# EAGLE library part ARDUINO_UNO (library ERIC)
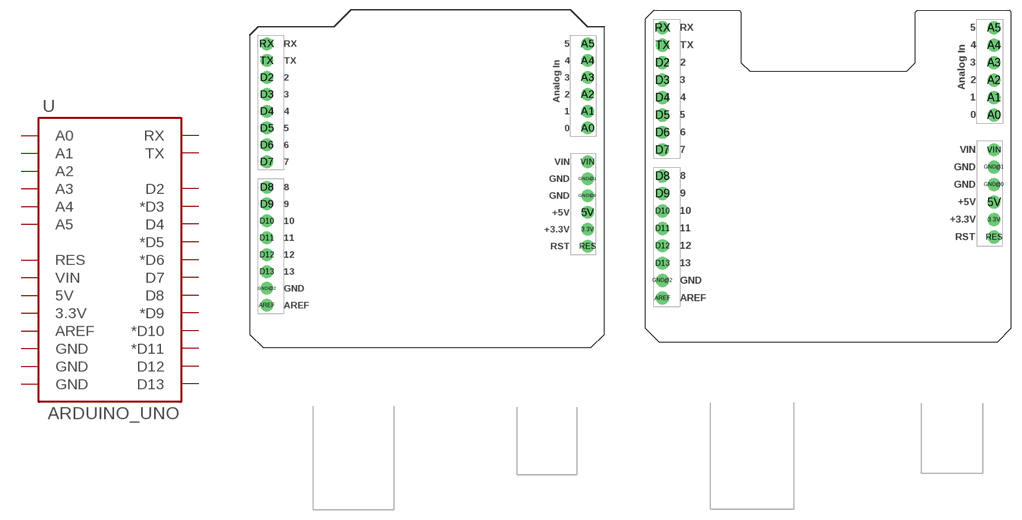
[diagram p14: symbol with the pads of ARDUINO_UNO_SHIELD; footprints ARDUINO_UNO_SHIELD, ARDUINO_AMPLITUDE]

Designator prefix -

## ARDUINO_UNO3/4  [ARDUINO_UNO_SHIELD]
3.3V  3.3V
5V  5V
A0  A0
A1  A1
A2  A2
A3  A3
A4  A4
A5  A5
AREF  AREF
D2  D2
D3  *D3
D4  D4
D5  *D5
D6  *D6
D7  D7
D8  D8
D9  *D9
D10  *D10
D11  *D11
D12  D12
D13  D13
GND@0  GND
GND@1  GND
GND@2  GND
RES  RES
RX  RX
TX  TX
VIN  VIN

## ARDUINO_UNOAMPLITUDE  [ARDUINO_AMPLITUDE]
Pads as for ARDUINO_UNO_SHIELD

## Footprint ARDUINO_UNO_SHIELD (pad centres in mm)
drill 1.016 pad 1.88: 3.3V 24.13,-3.81; 5V 24.13,-1.27; A0 24.13,11.43; A1 24.13,13.97; A2 24.13,16.51; A3 24.13,19.05; A4 24.13,21.59; A5 24.13,24.13; AREF -24.13,-15.24; D2 -24.13,19.05; D3 -24.13,16.51; D4 -24.13,13.97; D5 -24.13,11.43; D6 -24.13,8.89; D7 -24.13,6.35; D8 -24.13,2.54; D9 -24.13,0; D10 -24.13,-2.54; D11 -24.13,-5.08; D12 -24.13,-7.62; D13 -24.13,-10.16; GND@0 24.13,1.27; GND@1 24.13,3.81; GND@2 -24.13,-12.7; RES 24.13,-6.35; RX -24.13,24.13; TX -24.13,21.59; VIN 24.13,6.35

## Footprint ARDUINO_AMPLITUDE (pad centres in mm)
drill 1.016 pad 1.88: 3.3V 22.86,-7.62; 5V 22.86,-5.08; A0 22.86,7.62; A1 22.86,10.16; A2 22.86,12.7; A3 22.86,15.24; A4 22.86,17.78; A5 22.86,20.32; AREF -25.4,-19.05; D2 -25.4,15.24; D3 -25.4,12.7; D4 -25.4,10.16; D5 -25.4,7.62; D6 -25.4,5.08; D7 -25.4,2.54; D8 -25.4,-1.27; D9 -25.4,-3.81; D10 -25.4,-6.35; D11 -25.4,-8.89; D12 -25.4,-11.43; D13 -25.4,-13.97; GND@0 22.86,-2.54; GND@1 22.86,0; GND@2 -25.4,-16.51; RES 22.86,-10.16; RX -25.4,20.32; TX -25.4,17.78; VIN 22.86,2.54